# Altium footprint library LAIRD_28C0236-0EW-10.PcbLib: 1 footprints
Each footprint in its own frame and in the unit in brackets; x right, y up, seen from the top. Pads: shape width x height; smd on the part's side, far side on the other; paste and mask are expansions set on the pad; w line width, h text height; cw(c..) or ccw(c..) is an arc to the next point about the centre after c.
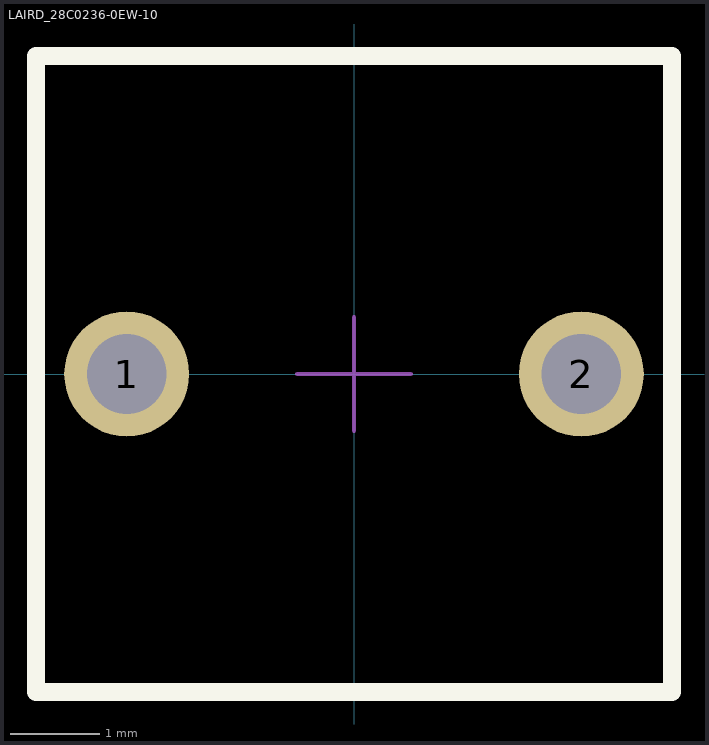
[diagram p0: the footprint, top view; thin cyan lines are the x and y axes]

## LAIRD_28C0236-0EW-10 [mil]
pads (2):
  round 55 hole 35: 1(-100,0) 2(100,0)
Top Overlay:
  lines w7.87: -140,-140 -140,140 140,140 140,-140 -140,-140
Mechanical 15:
  lines w1.97: -25,0 25,0 ; 0,-25 0,25 ; -140,-140 -140,140 140,140 140,-140 -140,-140
3D body: height 565, standoff -68.9, extent -118.11,-118.1 118.11,118.12